# Altium schematic symbol library Power.SchLib: 30 symbols
Pins are listed as number, name and electrical type; pins without a type are passive.

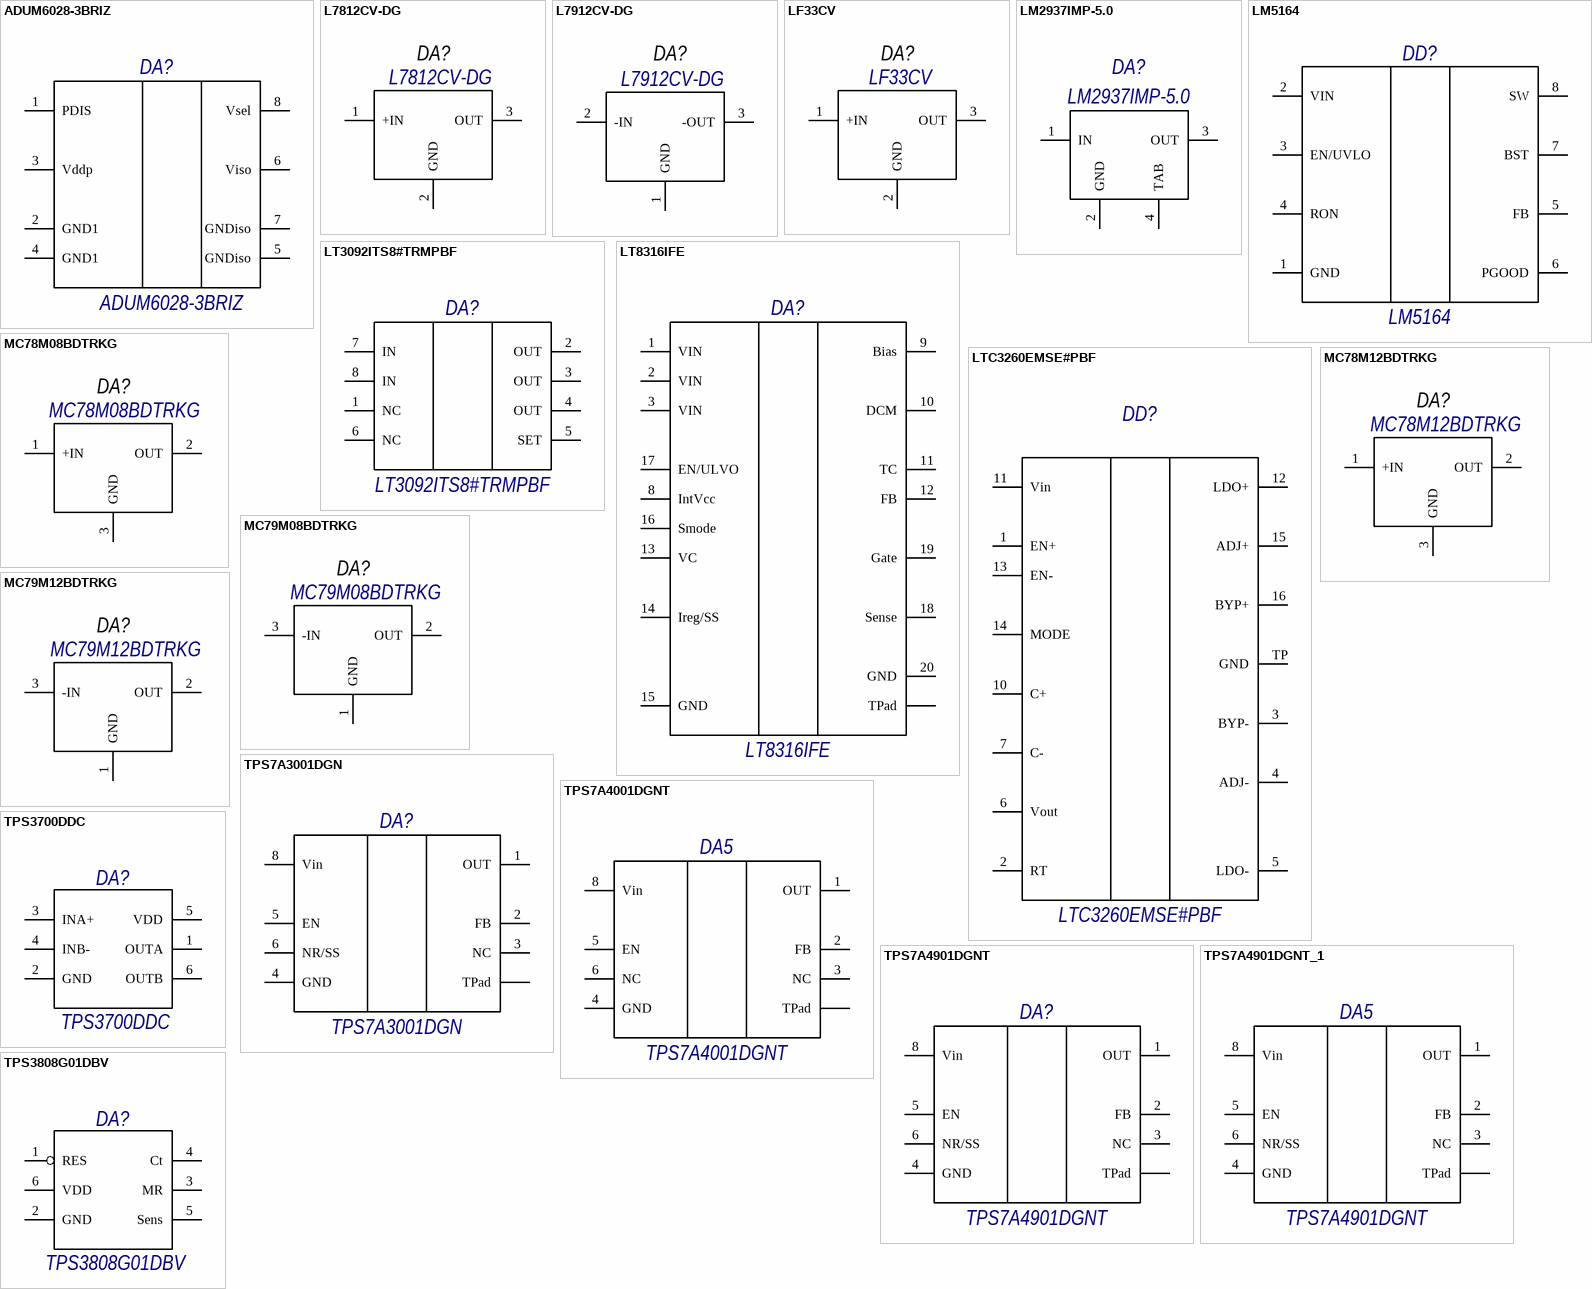
[diagram p0: symbols ADUM6028-3BRIZ to TPS3808G01DBV]

## ADUM6028-3BRIZ
designator DA?, comment PartNumber: ADUM6028-3BRIZ  (hidden comment: Микросхема ADUM6028-3BRIZ фирма "Analog Devices")
Low Emission, 5 kV  Isolated DC-to-DC Converters, 60 mA; GOST: Микросхема ADUM6028-3BRIZ фирма "Analog Devices"
footprint RI-8-1 (SO-8_WIDE (10.5), AD) (Body 6x7.5 mm, pitch 1.27 mm, 8-Lead Standard Small Outline Package, with Increased Creepage [SOIC_IC] Wide Body (RI-8-1)
pins: 1 PDIS, 2 GND1, 3 Vddp, 4 GND1, 5 GNDiso, 6 Viso, 7 GNDiso, 8 Vsel

## L7812CV-DG
designator DA?, comment PartNumber: L7812CV-DG  (hidden comment: Микросхема L7812CV-DG фирма "STMicroelectronics")
Positive voltage regulator, Vout 11.5 ... 12.5V, Iout 1.5A; Pattern: TO-220 (dual gauge); GOST: Микросхема L7812CV-DG фирма "STMicroelectronics"; Manufacturer: STMicroelectronics
footprint TO-220AB (vertical layout) with SK 525 30 ST (вертикальное расположение H=28mm max с радиатором SK 525 30 ST)
pins: 1 +IN, 2 GND, 3 OUT

## L7912CV-DG
designator DA?, comment PartNumber: L7912CV-DG  (hidden comment: Микросхема L7912CV-DG фирма "STMicroelectronics")
Negative voltage regulator, Vout -11.5 ... -12.5V, Iout 1.5A; Pattern: TO-220 (dual gauge); GOST: Микросхема L7912CV-DG фирма "STMicroelectronics"; Manufacturer: STMicroelectronics
footprint TO-220AB (vertical layout) with SK 525 30 ST (вертикальное расположение H=28mm max с радиатором SK 525 30 ST)
pins: 1 GND, 2 -IN, 3 -OUT

## LF33CV
designator DA?, comment PartNumber: LF33CV  (hidden comment: Микросхема LF33CV фирма "STMicroelectronics")
Very low drop voltage regulator with inhibit function, Vout 3.3V, Iout 0.5A; Pattern: TO-220 (single gauge); GOST: Микросхема LF33CV фирма "STMicroelectronics"; Manufacturer: STMicroelectronics
footprint TO-220AB (vertical layout) (вертикальное расположение H=19.5mm max)
pins: 1 +IN, 2 GND, 3 OUT

## LM2937IMP-5.0
designator DA?, comment PartNumber: LM2937IMP-5.0  (hidden comment: Микросхема LM2937IMP-5.0 фирма "Texas Instruments")
Linear Voltage Regulator IC 1 Output 1.5A TO-220-3; GOST: Микросхема LM2937IMP-5.0 фирма "Texas Instruments"
footprint SOT-223 (6.7x3.7mm H=1.8mm)
pins: 1 IN, 2 GND, 3 OUT, 4 TAB

## LM5164
designator DD?, comment PartNumber: LM5164  (hidden comment: Микросхема LM5164 фирма "Texas Instruments")
100-V Input, 1-A synchronous buck DC/DCconverter with ultra-low Iq; Pattern: DDA (R-PDSO-G8); Manufacturer: Texas Instruments; GOST: Микросхема LM5164 фирма "Texas Instruments"
footprint DDA (R-PDSO-G8) (PowerPad SO-8 Texas Instruments 5x4mm H=1.7mm)
pins: 1 GND, 2 VIN, 3 EN/UVLO, 4 RON, 5 FB, 6 PGOOD, 7 BST, 8 SW, TP
1 alternate drawing of the same symbol

## LT3092ITS8#TRMPBF
designator DA?, comment PartNumber: LT3092ITS8#TRMPBF  (hidden comment: Микросхема LT3092ITS8 фирма "Analog Devices")
Current Source Regulator 200mA TSOT-23-8; GOST: Микросхема LT3092ITS8 фирма "Analog Devices"
footprint SOT-23-8
pins: 1 NC, 2 OUT, 3 OUT, 4 OUT, 5 SET, 6 NC, 7 IN, 8 IN

## LT8316IFE
designator DA?, comment PartNumber: LT8316IFE  (hidden comment: Микросхема LT8316IFE фирма "Analog Devices")
600VIN Micropower No-Opto Isolated Flyback Controller; GOST: Микросхема LT8316IFE фирма "Analog Devices"
footprint TSSOP-20 var. FE20(16) (6.5x4.5mm H=1.2mm Pitch=0.65mm Linear Technology)
pins: 1 VIN, 2 VIN, 3 VIN, 8 IntVcc, 9 Bias, 10 DCM, 11 TC, 12 FB, 13 VC, 14 Ireg/SS, 15 GND, 16 Smode, 17 EN/ULVO, 18 Sense, 19 Gate, 20 GND, TP TPad

## LTC3260EMSE#PBF
designator DD?, comment PartNumber: LTC3260EMSE#PBF  (hidden comment: Микросхема LTC3260EMSE#PBF фирма "Analog Devices")
Low Noise Dual Supply Inverting Charge Pump 16MSOP; GOST: Микросхема LTC3260EMSE#PBF фирма "Analog Devices"
footprint MSOP-16_TP (4.1x3.1mm H=1.1mm)
pins: 1 EN+, 2 RT, 3 BYP-, 4 ADJ-, 5 LDO-, 6 Vout, 7 C-, 10 C+, 11 Vin, 12 LDO+, 13 EN-, 14 MODE, 15 ADJ+, 16 BYP+, TP GND
1 alternate drawing of the same symbol

## MC78M08BDTRKG
designator DA?, comment PartNumber: MC78M08BDTRKG  (hidden comment: Микросхема MC78M08BDTRKG фирма "ON Semiconductor")
8V 500 mA Positive Voltage  Regulators DPAK-3; GOST: Микросхема MC78M08BDTRKG фирма "ON Semiconductor"; Manufacturer: ON Semiconductor; Pattern: DPAK-3
footprint D-PAK ((TO-252AA) Dim 6.8mm*10.4mm H=2.4mm)
pins: 1 +IN, 2 OUT, 3 GND

## MC78M12BDTRKG
designator DA?, comment PartNumber: MC78M12BDTRKG  (hidden comment: Микросхема MC78M12BDTRKG фирма "ON Semiconductor")
12V 500 mA Positive Voltage  Regulators DPAK-3; GOST: Микросхема MC78M12BDTRKG фирма "ON Semiconductor"; Manufacturer: ON Semiconductor; Pattern: DPAK-3
footprint D-PAK ((TO-252AA) Dim 6.8mm*10.4mm H=2.4mm)
pins: 1 +IN, 2 OUT, 3 GND

## MC79M08BDTRKG
designator DA?, comment PartNumber: MC79M08BDTRKG  (hidden comment: Микросхема MC79M08BDTRKG фирма "ON Semiconductor")
8V 500 mA Negative Voltage  Regulators DPAK-3; GOST: Микросхема MC79M08BDTRKG фирма "ON Semiconductor"; Manufacturer: ON Semiconductor; Pattern: DPAK-3
footprint D-PAK ((TO-252AA) Dim 6.8mm*10.4mm H=2.4mm)
pins: 1 GND, 2 OUT, 3 -IN

## MC79M12BDTRKG
designator DA?, comment PartNumber: MC79M12BDTRKG  (hidden comment: Микросхема MC79M12BDTRKG фирма "ON Semiconductor")
12V 500 mA Negative Voltage  Regulators DPAK-3; GOST: Микросхема MC79M12BDTRKG фирма "ON Semiconductor"; Manufacturer: ON Semiconductor; Pattern: DPAK-3
footprint D-PAK ((TO-252AA) Dim 6.8mm*10.4mm H=2.4mm)
pins: 1 GND, 2 OUT, 3 -IN

## TPS7A3001DGN
designator DA?, comment PartNumber: TPS7A3001DGN  (hidden comment: Микросхема TPS7A3001DGN фирма "Texas Instruments")
–36V, –200mA, ULTRALOW-NOISE, NEGATIVE LINEAR REGULATOR; GOST: Микросхема TPS7A3001DGN фирма "Texas Instruments"
footprint DGN (S-PDSO-G8) (3.1x3.1mm, HVSSOP-8, MSOP-8 Power PAD, Texas Instruments)
pins: 1 OUT, 2 FB, 3 NC, 4 GND, 5 EN, 6 NR/SS, 8 Vin, TP TPad

## TPS7A4001DGNT
designator DA5, comment PartNumber: TPS7A4001DGNT  (hidden comment: Микросхема TPS7A4001DGNT фирма "Texas Instruments")
100-V Input Voltage, 50-mA, Very High Voltage Linear Regulator; GOST: Микросхема TPS7A4001DGNT фирма "Texas Instruments"
footprint DGN (S-PDSO-G8) (3.1x3.1mm, HVSSOP-8, MSOP-8 Power PAD, Texas Instruments)
pins: 1 OUT, 2 FB, 3 NC, 4 GND, 5 EN, 6 NC, 8 Vin, TP TPad

## TPS7A4901DGNT
designator DA?, comment PartNumber: TPS7A4901DGNT  (hidden comment: Микросхема TPS7A4901DGNT фирма "Texas Instruments")
36-V, 150-mA, Ultralow-Noise, Positive Linear Regulator; GOST: Микросхема TPS7A4901DGNT фирма "Texas Instruments"
footprint DGN (S-PDSO-G8) (3.1x3.1mm, HVSSOP-8, MSOP-8 Power PAD, Texas Instruments)
pins: 1 OUT, 2 FB, 3 NC, 4 GND, 5 EN, 6 NR/SS, 8 Vin, TP TPad

## TPS7A4901DGNT_1
designator DA5, comment PartNumber: TPS7A4901DGNT  (hidden comment: Микросхема TPS7A4901DGNT фирма "Texas Instruments")
150-mA, Ultralow-Noise, Positive Linear Regulator; GOST: Микросхема TPS7A4901DGNT фирма "Texas Instruments"
footprint DGN (S-PDSO-G8) (3.1x3.1mm, HVSSOP-8, MSOP-8 Power PAD, Texas Instruments)
pins: 1 OUT, 2 FB, 3 NC, 4 GND, 5 EN, 6 NR/SS, 8 Vin, TP TPad

## TPS3700DDC
designator DA?, comment PartNumber: TPS3700DDC  (hidden comment: Микросхема TPS3700DDC фирма "Texas Instruments")
High voltage (18V) window voltage detector with internal reference  for over and undervoltage monitoring; GOST: Микросхема TPS3700DDC фирма "Texas Instruments"
footprint DDC (R-PDSO-G6) (SOT-23-6 TI)
pins: 1 OUTA, 2 GND, 3 INA+, 4 INB-, 5 VDD, 6 OUTB

## TPS3808G01DBV
designator DA?, comment PartNumber: TPS3808G01DBV  (hidden comment: Микросхема TPS3808G01DBV фирма "Texas Instruments")
LOW-QUIESCENT-CURRENT PROGRAMMABLE-DELAY SUPERVISORY CIRCUIT; GOST: Микросхема TPS3808G01DBV фирма "Texas Instruments"
footprint SOT-23-6
pins: 1 RES, 2 GND, 3 MR, 4 Ct, 5 Sens, 6 VDD

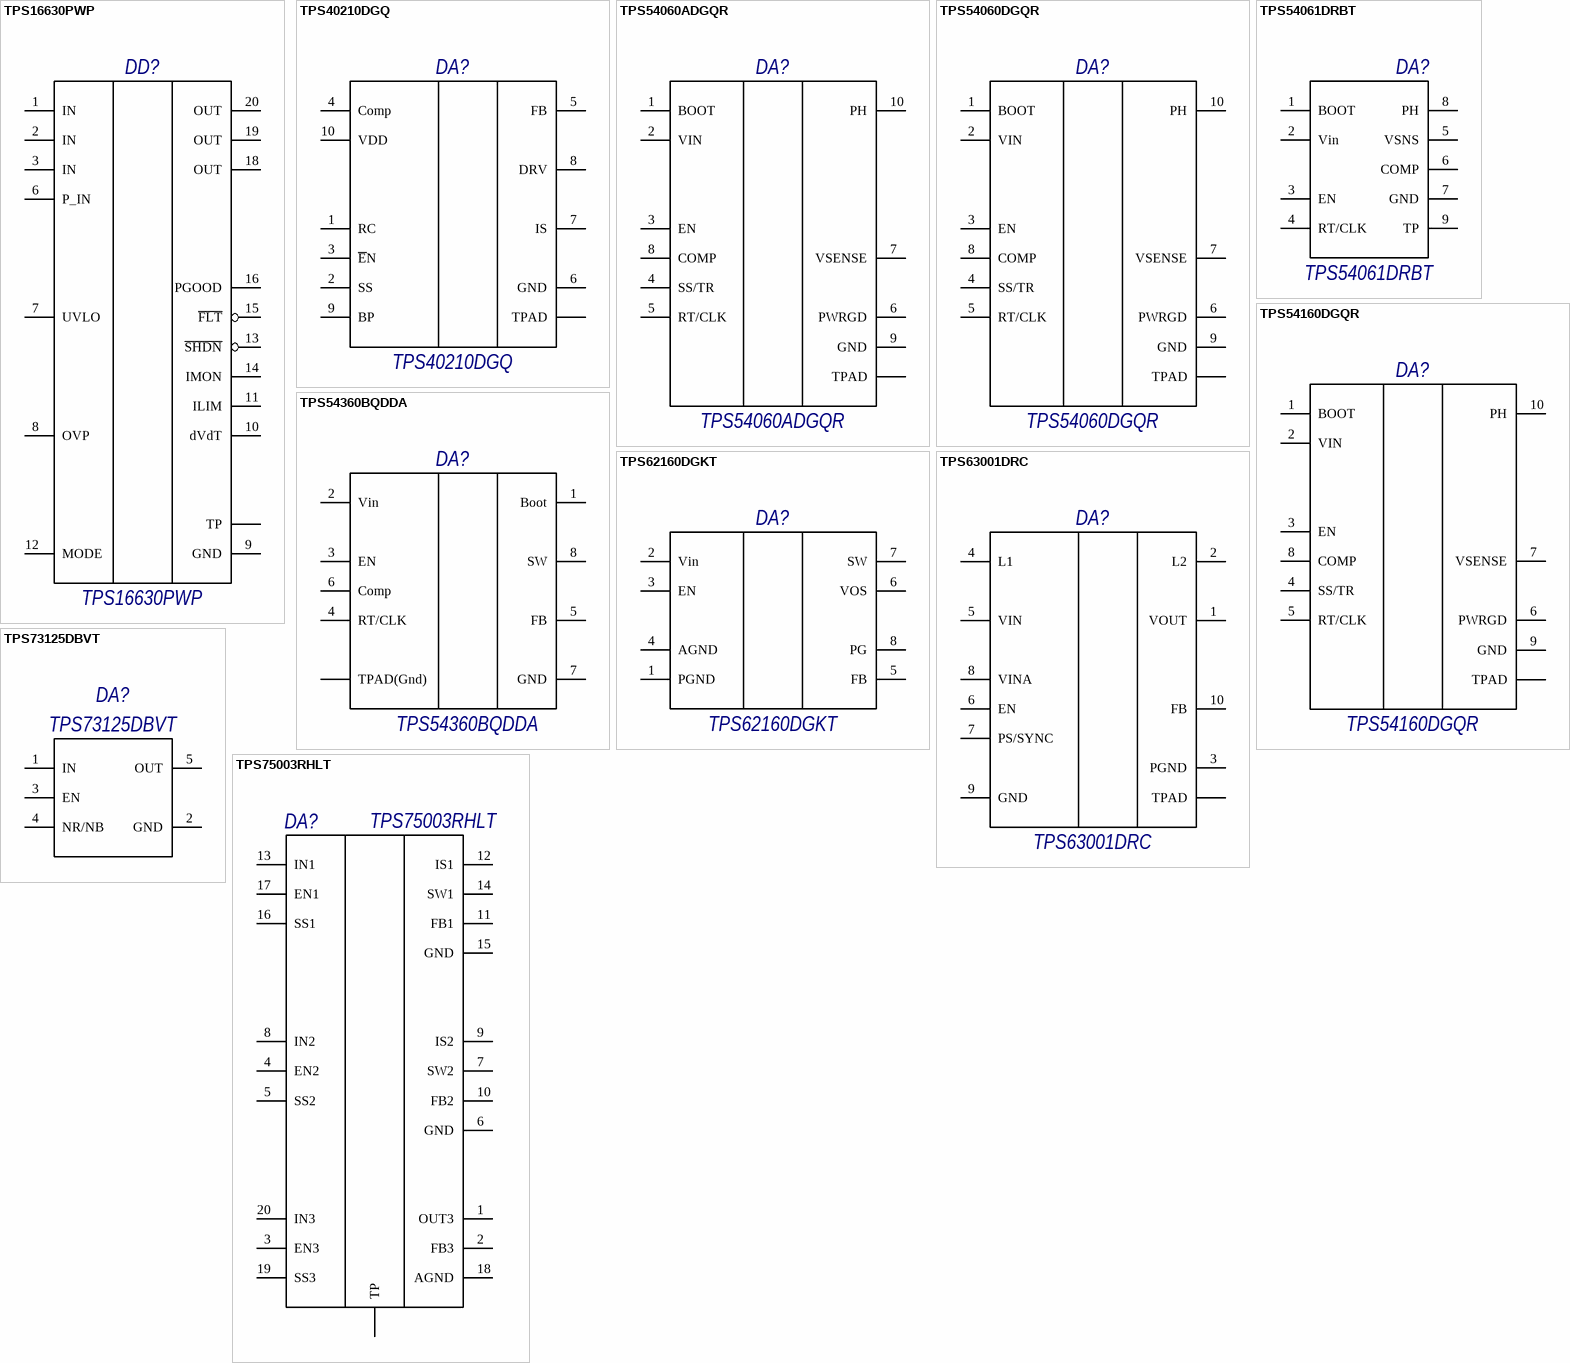
[diagram p1: symbols TPS16630PWP to TPS75003RHLT]

## TPS16630PWP
designator DD?, comment PartNumber: TPS16630PWP  (hidden comment: Микросхема TPS16630PWP фирма "Texas Instruments")
60-V, 6-A eFuse with Adjustable Output Power Limiting; GOST: Микросхема TPS16630PWP фирма "Texas Instruments"
footprint PWP (HTSSOP-20) (TSSOP-20, 6.6x6.6mm, H=1.2mm (R-PDSO-G20) TI)
pins: 1 IN, 2 IN, 3 IN, 6 P_IN, 7 UVLO, 8 OVP, 9 GND, 10 dVdT, 11 ILIM, 12 MODE, 13 ~{SHDN}, 14 IMON, 15 ~{F}~{LT}, 16 PGOOD, 18 OUT, 19 OUT, 20 OUT, TP

## TPS40210DGQ
designator DA?, comment PartNumber: TPS40210DGQ  (hidden comment: Микросхема TPS40210DGQ фирма "Texas Instruments")
60-V Input, 3.5-A, Step-Down DC/DC Converter With Eco-Mode; GOST: Микросхема TPS40210DGQ фирма "Texas Instruments"
footprint DGQ0010D (3.1x3.1mm H=1.1mm TI (MSOP-10_TP, HVSSOP) без отв. в радиаторе)
pins: 1 RC, 2 SS, 3 ~{E}N, 4 Comp, 5 FB, 6 GND, 7 IS, 8 DRV, 9 BP, 10 VDD, TP TPAD

## TPS54060ADGQR
designator DA?, comment PartNumber: TPS54060ADGQR  (hidden comment: Микросхема TPS54060ADGQR фирма "Texas Instruments")
0.5-A, 60-V, Step-Down DC/DC Converter with Eco-mode™; GOST: Микросхема TPS54060ADGQR фирма "Texas Instruments"
footprint DGQ (S-PDSO-G10) (3.1x3.1mm H=1.1mm TI (MSOP-10_TP))
footprint DGQ (S-PDSO-G10) - Maska (3.1x3.1mm H=1.1mm TI (MSOP-10_TP), убраны отв и изменена маска пайки радиатора)
pins: 1 BOOT, 2 VIN, 3 EN, 4 SS/TR, 5 RT/CLK, 6 PWRGD, 7 VSENSE, 8 COMP, 9 GND, 10 PH, TP TPAD

## TPS54060DGQR
designator DA?, comment PartNumber: TPS54060DGQR  (hidden comment: Микросхема TPS54060DGQR фирма "Texas Instruments")
0.5-A, 60-V, Step-Down DC/DC Converter with Eco-mode™; GOST: Микросхема TPS54060DGQR фирма "Texas Instruments"
footprint DGQ (S-PDSO-G10) (3.1x3.1mm H=1.1mm TI (MSOP-10_TP))
footprint DGQ (S-PDSO-G10) - Maska (3.1x3.1mm H=1.1mm TI (MSOP-10_TP), убраны отв и изменена маска пайки радиатора)
pins: 1 BOOT, 2 VIN, 3 EN, 4 SS/TR, 5 RT/CLK, 6 PWRGD, 7 VSENSE, 8 COMP, 9 GND, 10 PH, TP TPAD

## TPS54061DRBT
designator DA?, comment PartNumber: TPS54061DRBT  (hidden comment: Микросхема TPS54061DRBT фирма "Texas Instruments")
Wide Input 60-V, 200-mA Synchronous Step-Down DC-DC Converter With Low IQ, VSON-8, +150 C; GOST: Микросхема TPS54061DRBT фирма "Texas Instruments"
footprint DRB (DRB0008B) (chip 3x3mm H=1mm (VSON-8) TI)
footprint DRB (DRB0008B) - pin (chip 3x3mm H=1mm (VSON-8) TI - удлинены выводы из под корпуса, убраны отв и изменена маска пайки радиатора)
pins: 1 BOOT, 2 Vin, 3 EN, 4 RT/CLK, 5 VSNS, 6 COMP, 7 GND, 8 PH, 9 TP
1 alternate drawing of the same symbol

## TPS54160DGQR
designator DA?, comment PartNumber: TPS54160DGQR  (hidden comment: Микросхема TPS54160DGQR фирма "Texas Instruments")
1.5-A, 60-V, Step-Down DC/DC Converter with Eco-mode™; GOST: Микросхема TPS54160DGQR фирма "Texas Instruments"
footprint DGQ (S-PDSO-G10) (3.1x3.1mm H=1.1mm TI (MSOP-10_TP))
pins: 1 BOOT, 2 VIN, 3 EN, 4 SS/TR, 5 RT/CLK, 6 PWRGD, 7 VSENSE, 8 COMP, 9 GND, 10 PH, TP TPAD

## TPS54360BQDDA
designator DA?, comment PartNumber: TPS54360BQDDA  (hidden comment: Микросхема TPS54360BQDDA фирма "Texas Instruments")
60-V Input, 3.5-A, Step-Down DC/DC Converter With Eco-Mode; GOST: Микросхема TPS54360BQDDA фирма "Texas Instruments"
footprint DDA (R-PDSO-G8) (PowerPad SO-8 Texas Instruments 5x4mm H=1.7mm)
pins: 1 Boot, 2 Vin, 3 EN, 4 RT/CLK, 5 FB, 6 Comp, 7 GND, 8 SW, TP TPAD(Gnd)

## TPS62160DGKT
designator DA?, comment PartNumber: TPS62160DGKT  (hidden comment: Микросхема TPS62160DGKT фирма "Texas Instruments")
3-V to 17-V, 1-A Step-DownConverterswith DCS-Control™; GOST: Микросхема TPS62160DGKT фирма "Texas Instruments"
footprint DGK (S-PDSO-G8) (VSSOP-8 (MSOP-8) Texas Instruments Korp=3.1x3.1mm Pitch 0.65mm)
pins: 1 PGND, 2 Vin, 3 EN, 4 AGND, 5 FB, 6 VOS, 7 SW, 8 PG

## TPS63001DRC
designator DA?, comment PartNumber: TPS63001DRC  (hidden comment: Микросхема TPS63001DRC фирма "Texas Instruments")
High-Efficient Single Inductor Buck-Boost Converter With 1.8-A Switches; GOST: Микросхема TPS63001DRC фирма "Texas Instruments"
footprint DRC0010J (VSON) (Body 3.1x3.1 H=1мм, Pitch=0.5mm Texas  Instruments)
pins: 1 VOUT, 2 L2, 3 PGND, 4 L1, 5 VIN, 6 EN, 7 PS/SYNC, 8 VINA, 9 GND, 10 FB, TP TPAD

## TPS73125DBVT
designator DA?, comment PartNumber: TPS73125DBVT  (hidden comment: Микросхема TPS73125DBVT фирма "Texas Instruments")
150-mA Low Dropout Regulator With Reverse Current Protection, Capacitor-Free, NMOS; GOST: Микросхема TPS73125DBVT фирма "Texas Instruments"
footprint SOT-23-5
pins: 1 IN, 2 GND, 3 EN, 4 NR/NB, 5 OUT

## TPS75003RHLT
designator DA?, comment PartNumber: TPS75003RHLT  (hidden comment: Микросхема TPS75003RHLT фирма "Texas Instruments")
ИС управления питанием (PMIC), out: 2.2 V to 6.5 V, 150 uA, -40..+85,; GOST: Микросхема TPS75003RHLT фирма "Texas Instruments"
footprint RHL-20 (VQFN-20, TI) (Body 4.5x3.5 mm, pitch 0.5mm, VQFN-20, Texas  Instruments)
pins: 1 OUT3, 2 FB3, 3 EN3, 4 EN2, 5 SS2, 6 GND, 7 SW2, 8 IN2, 9 IS2, 10 FB2, 11 FB1, 12 IS1, 13 IN1, 14 SW1, 15 GND, 16 SS1, 17 EN1, 18 AGND, 19 SS3, 20 IN3, TPAD TP